# Altium footprint library 基本元件.PcbLib: 39 footprints (part 1 of 3)
Each footprint in its own frame and in the unit in brackets; x right, y up, seen from the top. Pads: shape width x height; smd on the part's side, far side on the other; paste and mask are expansions set on the pad; w line width, h text height; cw(c..) or ccw(c..) is an arc to the next point about the centre after c.
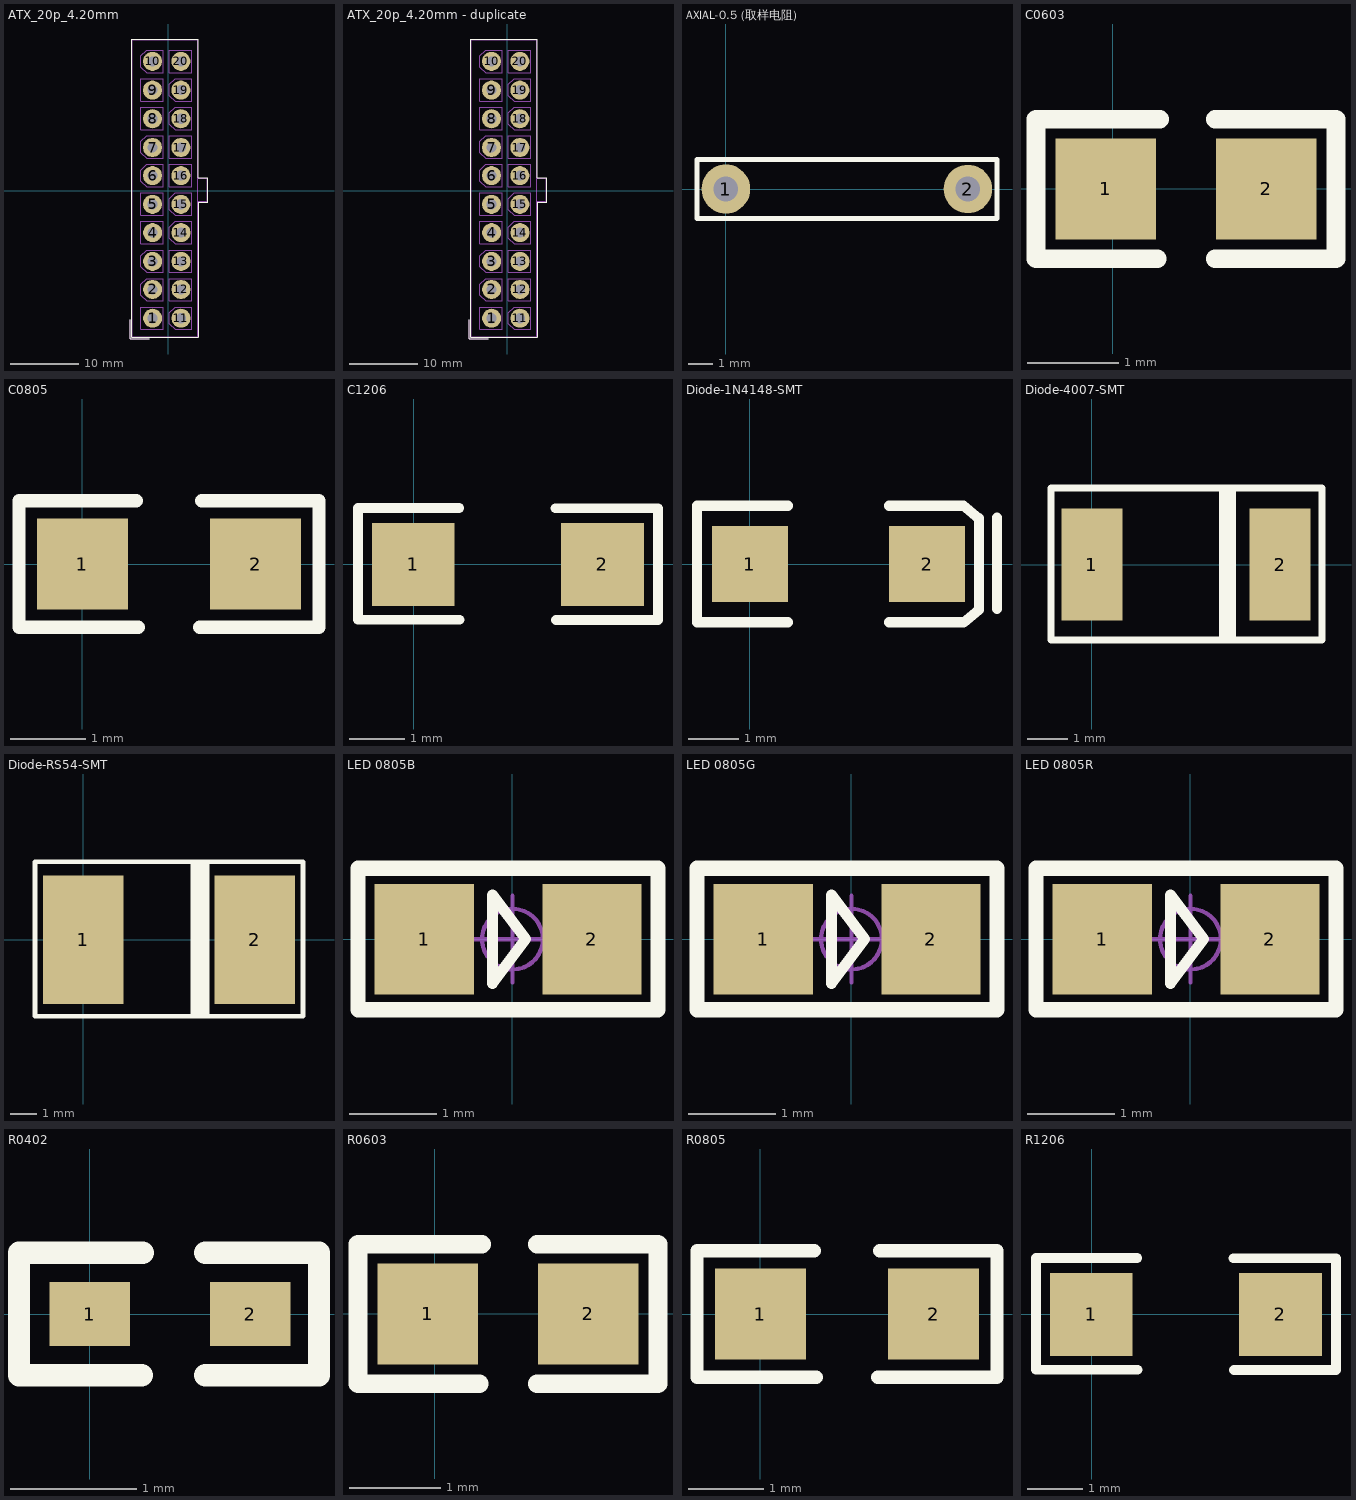
[diagram p0: the footprints below, top view; thin cyan lines are the x and y axes]

## ATX_20p_4.20mm [mm]
pads (20):
  round 2.8 hole 1.5 paste+0 mask+0.102: 1(-2.276,-18.796) 2(-2.276,-14.563) 3(-2.276,-10.432) 4(-2.276,-6.199) 5(-2.286,-2.032) 6(-2.286,2.201) 7(-2.286,6.332) 8(-2.286,10.565) 9(-2.286,14.779) 10(-2.286,19.012) 11(1.905,-18.796) 12(1.905,-14.563) 13(1.905,-10.432) 14(1.905,-6.199) 15(1.895,-2.032) 16(1.895,2.201) 17(1.895,6.332) 18(1.895,10.565) 19(1.895,14.779) 20(1.895,19.012)
Top Overlay:
  lines w0.12: -5.589,-19.006 -5.589,-21.857 -2.739,-21.857 ; -5.348,22.303 4.471,22.303 ; -5.339,22.294 -5.348,4.294 -5.348,-21.616 4.471,-21.616 ; 4.462,-1.706 4.47,-21.59 ; 4.462,1.894 4.471,22.294 ; 4.471,-1.717 5.871,-1.717 5.871,0.093 5.871,1.903 4.471,1.903
Mechanical 15:
  lines w0.1: -5.589,-19.006 -5.589,-21.857 -2.739,-21.857 ; -5.238,22.193 4.361,22.193 ; -5.238,22.294 -5.238,-21.506 4.361,-21.506 4.361,22.294 ; 4.361,-1.607 5.761,-1.607 5.761,1.793 4.361,1.793 ; -3.989,-20.456 -3.989,-17.156 -0.689,-17.156 -0.689,-20.456 -3.989,-20.456 ; -3.989,-15.432 -3.164,-16.257 -0.689,-16.257 -0.689,-12.957 -3.164,-12.957 -3.989,-13.782 -3.989,-15.432 ; -3.989,-11.231 -3.164,-12.056 -0.689,-12.056 -0.689,-8.756 -3.164,-8.756 -3.989,-9.581 -3.989,-11.231 ; -3.989,-7.857 -3.989,-4.557 -0.689,-4.557 -0.689,-7.857 -3.989,-7.857 ; -3.989,-3.656 -3.989,-0.356 -0.689,-0.356 -0.689,-3.656 -3.989,-3.656 ; -3.989,1.368 -3.164,0.543 -0.689,0.543 -0.689,3.843 -3.164,3.843 -3.989,3.018 -3.989,1.368 ; -3.989,5.568 -3.164,4.743 -0.689,4.743 -0.689,8.043 -3.164,8.043 -3.989,7.218 -3.989,5.568 ; -3.989,8.944 -3.989,12.243 -0.689,12.243 -0.689,8.944 -3.989,8.944 ; -3.989,13.143 -3.989,16.443 -0.689,16.443 -0.689,13.143 -3.989,13.143 ; -3.989,18.169 -3.164,17.344 -0.689,17.344 -0.689,20.644 -3.164,20.644 -3.989,19.819 -3.989,18.169 ; 0.211,-19.631 1.036,-20.456 3.511,-20.456 3.511,-17.156 1.036,-17.156 0.211,-17.981 0.211,-19.631 ; 0.211,-16.257 0.211,-12.957 3.511,-12.957 3.511,-16.257 0.211,-16.257 ; 0.211,-12.056 0.211,-8.756 3.511,-8.756 3.511,-12.056 0.211,-12.056 ; 0.211,-7.032 1.036,-7.857 3.511,-7.857 3.511,-4.557 1.036,-4.557 0.211,-5.382 0.211,-7.032 ; 0.211,-2.831 1.036,-3.656 3.511,-3.656 3.511,-0.356 1.036,-0.356 0.211,-1.181 0.211,-2.831 ; 0.211,0.543 0.211,3.843 3.511,3.843 3.511,0.543 0.211,0.543 ; 0.211,4.743 0.211,8.043 3.511,8.043 3.511,4.743 0.211,4.743 ; 0.211,9.769 1.036,8.944 3.511,8.944 3.511,12.243 1.036,12.243 0.211,11.419 0.211,9.769 ; 0.211,13.968 1.036,13.143 3.511,13.143 3.511,16.443 1.036,16.443 0.211,15.618 0.211,13.968 ; 0.211,17.344 0.211,20.644 3.511,20.644 3.511,17.344 0.211,17.344

## ATX_20p_4.20mm - duplicate [mm]
pads (20):
  round 2.8 hole 1.5 paste+0 mask+0.102: 1(-2.276,-18.796) 2(-2.276,-14.563) 3(-2.276,-10.432) 4(-2.276,-6.199) 5(-2.286,-2.032) 6(-2.286,2.201) 7(-2.286,6.332) 8(-2.286,10.565) 9(-2.286,14.779) 10(-2.286,19.012) 11(1.905,-18.796) 12(1.905,-14.563) 13(1.905,-10.432) 14(1.905,-6.199) 15(1.895,-2.032) 16(1.895,2.201) 17(1.895,6.332) 18(1.895,10.565) 19(1.895,14.779) 20(1.895,19.012)
Top Overlay:
  lines w0.12: -5.589,-19.006 -5.589,-21.857 -2.739,-21.857 ; -5.348,22.303 4.471,22.303 ; -5.339,22.294 -5.348,4.294 -5.348,-21.616 4.471,-21.616 ; 4.462,-1.706 4.47,-21.59 ; 4.462,1.894 4.471,22.294 ; 4.471,-1.717 5.871,-1.717 5.871,0.093 5.871,1.903 4.471,1.903
Mechanical 15:
  lines w0.1: -5.589,-19.006 -5.589,-21.857 -2.739,-21.857 ; -5.238,22.193 4.361,22.193 ; -5.238,22.294 -5.238,-21.506 4.361,-21.506 4.361,22.294 ; 4.361,-1.607 5.761,-1.607 5.761,1.793 4.361,1.793 ; -3.989,-20.456 -0.689,-20.456 -0.689,-17.156 -3.989,-17.156 -3.989,-20.456 ; -3.989,-15.432 -3.989,-13.782 -3.164,-12.957 -0.689,-12.957 -0.689,-16.257 -3.164,-16.257 -3.989,-15.432 ; -3.989,-11.231 -3.989,-9.581 -3.164,-8.756 -0.689,-8.756 -0.689,-12.056 -3.164,-12.056 -3.989,-11.231 ; -3.989,-7.857 -0.689,-7.857 -0.689,-4.557 -3.989,-4.557 -3.989,-7.857 ; -3.989,-3.656 -0.689,-3.656 -0.689,-0.356 -3.989,-0.356 -3.989,-3.656 ; -3.989,1.368 -3.989,3.018 -3.164,3.843 -0.689,3.843 -0.689,0.543 -3.164,0.543 -3.989,1.368 ; -3.989,5.568 -3.989,7.218 -3.164,8.043 -0.689,8.043 -0.689,4.743 -3.164,4.743 -3.989,5.568 ; -3.989,8.944 -0.689,8.944 -0.689,12.243 -3.989,12.243 -3.989,8.944 ; -3.989,13.143 -0.689,13.143 -0.689,16.443 -3.989,16.443 -3.989,13.143 ; -3.989,18.169 -3.989,19.819 -3.164,20.644 -0.689,20.644 -0.689,17.344 -3.164,17.344 -3.989,18.169 ; 0.211,-19.631 0.211,-17.981 1.036,-17.156 3.511,-17.156 3.511,-20.456 1.036,-20.456 0.211,-19.631 ; 0.211,-16.257 3.511,-16.257 3.511,-12.957 0.211,-12.957 0.211,-16.257 ; 0.211,-12.056 3.511,-12.056 3.511,-8.756 0.211,-8.756 0.211,-12.056 ; 0.211,-7.032 0.211,-5.382 1.036,-4.557 3.511,-4.557 3.511,-7.857 1.036,-7.857 0.211,-7.032 ; 0.211,-2.831 0.211,-1.181 1.036,-0.356 3.511,-0.356 3.511,-3.656 1.036,-3.656 0.211,-2.831 ; 0.211,0.543 3.511,0.543 3.511,3.843 0.211,3.843 0.211,0.543 ; 0.211,4.743 3.511,4.743 3.511,8.043 0.211,8.043 0.211,4.743 ; 0.211,9.769 0.211,11.419 1.036,12.243 3.511,12.243 3.511,8.944 1.036,8.944 0.211,9.769 ; 0.211,13.968 0.211,15.618 1.036,16.443 3.511,16.443 3.511,13.143 1.036,13.143 0.211,13.968 ; 0.211,17.344 3.511,17.344 3.511,20.644 0.211,20.644 0.211,17.344

## AXIAL-0.5 (取样电阻) [mm]
pads (2):
  oval 2x2.032 hole 1.016: 1(0,0)
  round 2 hole 1.016: 2(10,0)
Top Overlay:
  lines w0.2: -1.194,-1.219 -1.194,1.219 11.201,1.219 11.201,-1.219 -1.194,-1.219

## C0603 [mm]
pads (2):
  rect 1.1x1.1 smd: 1(-0.076,0) 2(1.676,0)
Top Overlay:
  lines w0.2: -0.838,-0.762 0.488,-0.762 ; -0.838,0.762 0.513,0.762 ; 1.118,-0.762 2.438,-0.762
  lines w0.203: -0.838,-0.762 -0.838,0.762 ; 1.118,0.762 2.438,0.762 2.438,-0.762
3D body "0603CG3R0C500NT.stp": height 0.9, standoff 0, extent -0.038,-0.4 1.562,0.4

## C0805 [mm]
height 1.75
pads (2):
  rect 1.2x1.2 smd: 1(0,0) 2(2.286,0)
Top Overlay:
  lines w0.178: 0.711,0.838 -0.838,0.838 -0.838,-0.838 0.737,-0.838 ; 1.549,-0.838 3.124,-0.838 3.124,0.838 1.575,0.838
3D body "0805X105K500CT.stp": height 1.45, standoff 0, extent 0.064,-0.576 2.064,0.674

## C1206 [mm]
pads (2):
  rect 1.5x1.5 smd: 1(-0.005,0) 2(3.424,0)
Top Overlay:
  lines w0.178: 0.828,1.024 -1.006,1.024 -1.006,-1.003 0.831,-1.003 ; 2.573,1.019 4.43,1.019 4.43,-1.008 2.583,-1.008
3D body "C 1206.STEP": height 1.21, standoff -0.01, extent 0.178,-0.81 3.378,0.81

## Diode-1N4148-SMT [mm] "SMT 1N4148"
height 1.2
pads (2):
  rect 1.5x1.5 smd: 1(0,0) 2(3.5,0)
Top Overlay:
  lines w0.2: 0.75,-1.15 -1.041,-1.15 -1.041,1.15 0.75,1.15 ; 2.75,-1.15 4.218,-1.15 4.521,-0.907 4.521,0.902 4.211,1.15 2.75,1.15 ; 4.877,-0.889 4.877,0.92
3D body "SMA.STEP": height 2.15, standoff 0.04, extent -0.75,-1.3 4.353,1.3

## Diode-4007-SMT [mil]
pads (2):
  rect 60x110 smd: 1(0,0) 2(185,0)
Top Overlay:
  rectangle: 125,-74.17 141.73,73.82
  lines w7: 160,-74.17 226.14,-74.17 226.14,75.16 160,75.16 ; 205,-74.17 -40.16,-74.17 -40.16,75.16 225,75.16
3D body "SMB.STEP": height 92.52, standoff 1.73, extent -11.5,-70.76 197.3,70.98

## Diode-RS54-SMT [mm]
pads (2):
  rect 3x4.794 smd: 1(0,0) 2(6.375,0)
Top Overlay:
  rectangle: 3.988,-2.819 4.699,2.875
  lines w0.178: 4.064,-2.849 8.179,-2.849 8.179,2.9 -1.803,2.9 -1.803,-2.849 5.207,-2.849
3D body "SMC.STEP": height 2.45, standoff 0.03, extent -0.773,-2.828 7.132,2.972

## LED 0805B [mil] "蓝色0805LED"
pads (2):
  rect 45x50 smd: 1(-40,0) 2(36.01,0)
Top Overlay:
  lines w5: -9,-20 6,0 -9,20 -9,-20
  lines w7: -70.03,-31.94 65.97,-31.94 65.97,32.06 -70.03,32.06 -70.03,-31.94
Mechanical 15:
  circle w1.97: c0,0 r13.78
  lines w1.97: -19.68,0 19.68,0 ; 0,-19.68 0,19.68
3D body "LED 0805玻璃罩.STEP": height 31.69, standoff 12.01, extent -29.49,-24.65 29.49,24.65
3D body "LED 0805-B.STEP": height 26.33, standoff -0.16, extent -39.37,-24.65 39.37,24.65

## LED 0805G [mil] "绿色0805LED"
pads (2):
  rect 45x50 smd: 1(-40,0) 2(36.01,0)
Top Overlay:
  lines w5: -9,-20 6,0 -9,20 -9,-20
  lines w7: -70.03,-31.94 65.97,-31.94 65.97,32.06 -70.03,32.06 -70.03,-31.94
Mechanical 15:
  circle w1.97: c0,0 r13.78
  lines w1.97: -19.68,0 19.68,0 ; 0,-19.68 0,19.68
3D body "LED 0805-G.STEP": height 26.33, standoff -0.16, extent -39.37,-24.65 39.37,24.65
3D body "LED 0805玻璃罩.STEP": height 31.69, standoff 12.01, extent -29.49,-24.65 29.49,24.65

## LED 0805R [mil] "红色0805LED"
pads (2):
  rect 45x50 smd: 1(-40,0) 2(36.01,0)
Top Overlay:
  lines w5: -9,-20 6,0 -9,20 -9,-20
  lines w7: -70.03,-31.94 65.97,-31.94 65.97,32.06 -70.03,32.06 -70.03,-31.94
Mechanical 15:
  circle w1.97: c0,0 r13.78
  lines w1.97: -19.68,0 19.68,0 ; 0,-19.68 0,19.68
3D body "LED 0805玻璃罩.STEP": height 31.69, standoff 12.01, extent -29.49,-24.65 29.49,24.65
3D body "LED 0805-R.STEP": height 26.33, standoff -0.16, extent -39.37,-24.65 39.37,24.64

## R0402 [mil]
pads (2):
  rect 25x20 smd: 1(0,0) 2(50,0)
Top Overlay:
  lines w7: 16.2,-19 -22,-19 -22,19 16.5,19 ; 36,-19 71.4,-19 71.4,19 36,19

## R0603 [mm]
pads (2):
  rect 1.1x1.1 smd: 1(-0.076,0) 2(1.676,0)
Top Overlay:
  lines w0.2: -0.838,-0.762 0.488,-0.762 ; -0.838,0.762 0.513,0.762 ; 1.118,-0.762 2.438,-0.762
  lines w0.203: -0.838,-0.762 -0.838,0.762 ; 1.118,0.762 2.438,0.762 2.438,-0.762
3D body "0603WAF5602T5E.stp": height 0.55, standoff 0, extent -0.038,-0.4 1.562,0.4

## R0805 [mm]
height 1.75
pads (2):
  rect 1.2x1.2 smd: 1(0,0) 2(2.286,0)
Top Overlay:
  lines w0.178: 0.711,0.838 -0.838,0.838 -0.838,-0.838 0.737,-0.838 ; 1.549,-0.838 3.124,-0.838 3.124,0.838 1.575,0.838
3D body "0805W8F1004T5E.stp": height 0.65, standoff 0, extent 0.143,-0.637 2.143,0.638

## R1206 [mm]
pads (2):
  rect 1.5x1.5 smd: 1(-0.005,0) 2(3.424,0)
Top Overlay:
  lines w0.178: 0.828,1.024 -1.006,1.024 -1.006,-1.003 0.831,-1.003 ; 2.573,1.019 4.43,1.019 4.43,-1.008 2.583,-1.008
3D body "WCR1206-1K1FI.stp": height 0.7, standoff 0, extent 0.216,-0.787 3.341,0.788